# Altium schematic symbol library kmilo17pet-Maxim_Sensors.SchLib: 1172 symbols (part 58 of 61)
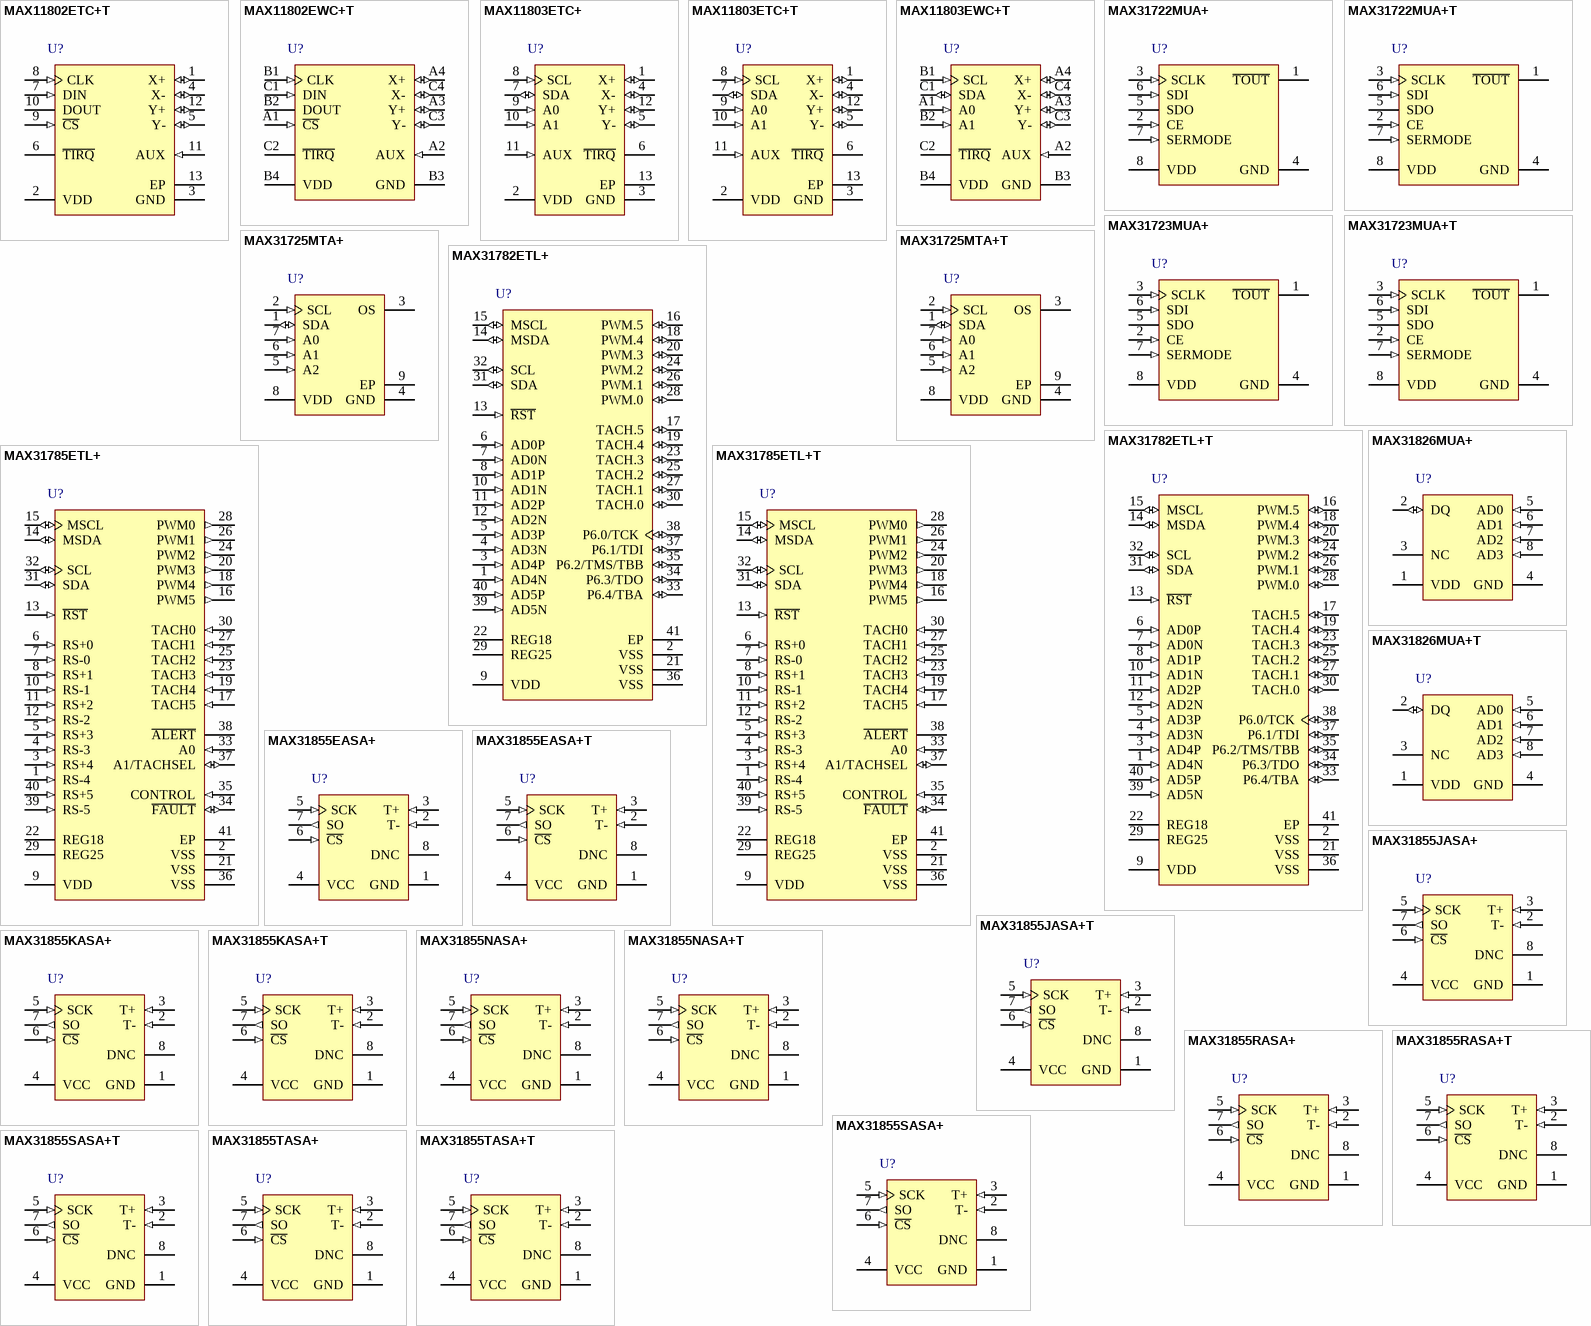
[diagram p90: symbols MAX11802ETC+T to MAX31855TASA+T]

## MAX11803EWC+T
designator U?
4 Channels, Low-Power, Ultra Small Resistive Touch-Screen Controller with SPI Interface, -40 to 85 degC, 12-Pin BGA (W121A2+1), Pb-Free, Tape and Reel; Generic Part Number: MAX11803; PartNumber: MAX11803EWC+T; Channels: 4; EV Kit: Yes; Interface: I2C; DatasheetVersion: Rev. 3; PackageVersion: Rev. G, 02/2010; PackageReference: W121A2+1; PackageDescription: 12-Pin Wafer-Level Package, Full Array, Body 1.555 x 2.135 mm, Pitch 0.5 mm; Supplier 1: Digi-Key; Supplier Part Number 1: MAX11803EWC+TTR-ND; Supplier 2: Digi-Key; Supplier Part Number 2: MAX11803EWC+TCT-ND; Supplier 3: Digi-Key; Supplier Part Number 3: MAX11803EWC+TDKR-ND; Supplier 4: Newark; Supplier Part Number 4: 69R7363; Supplier 5: Mouser; Supplier Part Number 5: 700-MAX11803EWC+T; Controller Type: Resistive; Packing: Tape and Reel; Mounting Technology: Surface Mount; ComponentLink1Description: Manufacturer URL; ComponentLink1URL: http://www.maximintegrated.com/; ComponentLink2Description: Datasheet; ComponentLink2URL: http://datasheets.maximintegrated.com/en/ds/MAX11800-MAX11803.pdf; ComponentLink3Description: Package Specification; ComponentLink3URL: http://pdfserv.maximintegrated.com/package_dwgs/21-0009.PDF
footprint MAXM-W121A2+1 (BGA, 12-Balls, Body 2.135x1.555mm, Pitch 0.5mm)
pins: A1 A0 (in) "I2C Address Input Bit 0", A2 AUX (in) "Auxiliary Input", A3 Y+ (io) "Y+ Channel Input/Output", A4 X+ (io) "X+ Channel Input/Output", B1 SCL (in) "I2C Serial Data Clock Input", B2 A1 (in) "I2C Address Input Bit 1", B3 GND (power) "Ground", B4 VDD (power) "Power Supply. Bypass VDD to GND with a 1uF capacitor.", C1 SDA (io) "I2C Serial Data Bus Input/Output", C2 ~{TIRQ} (hiz) "Active-Low Touch Interrupt Output", C3 Y- (io) "Y- Channel Input/Output", C4 X- (io) "X- Channel Input/Output"

## MAX31722MUA+
designator U?
Digital Thermometers and Thermostats with SPI / 3-Wire Interface, 12 Bits Temperature Resolution, -55 to 125 degC, 8-Pin SOP (U8+1), Pb-Free; Generic Part Number: MAX31722; PartNumber: MAX31722MUA+; Alarm Output: Overt; Functions: Memory, Single Temperature Alarm ,Standalone Thermostat; Interface: 3-Wire/SPI, 3-Wire; Parasite Pwr.: No; DatasheetVersion: Rev. 0; PackageVersion: Rev. L, 08/2009; PackageReference: U8+1; PackageDescription: 8-Pin Micro-MAX, Thin Shrink Small-Outline (U8+1), Body 3 x 3 mm, Pitch 0.65 mm; Supplier 1: Digi-Key; Supplier Part Number 1: MAX31722MUA+-ND; Supplier 2: Farnell; Supplier Part Number 2: 2212248; Supplier 3: Newark; Supplier Part Number 3: 45W6313; Supplier 4: Mouser; Supplier Part Number 4: 700-MAX31722MUA+; Mounting Technology: Surface Mount; Code_JEDEC: MO-187; ComponentLink1Description: Manufacturer URL; ComponentLink1URL: http://www.maximintegrated.com/; ComponentLink2Description: Datasheet; ComponentLink2URL: http://datasheets.maximintegrated.com/en/ds/MAX31722-MAX31723.pdf; ComponentLink3Description: Package Specification; ComponentLink3URL: http://pdfserv.maximintegrated.com/package_dwgs/21-0036.PDF
footprint MAXM-U8+1_N (SOP, 8-Leads, Body 3x3mm, Pitch 0.65mm, IPC Medium Density)
footprint MAXM-U8+1_L (SOP, 8-Leads, Body 3x3mm, Pitch 0.65mm, IPC High Density)
footprint MAXM-U8+1_M (SOP, 8-Leads, Body 3x3mm, Pitch 0.65mm, IPC Low Density)
pins: 1 ~{TOUT} (oc) "Thermostat Output. Open-drain output indicator for internal thermal alarm limits.", 2 CE (in) "Chip Enable. Must be asserted high for communication to take place for either the SPI or 3-wire interfaces.", 3 SCLK (in) "Serial-Clock Input. Used to synchronize data movement on the serial interface for either SPI or 3-wire interfaces.", 4 GND (power) "Ground. Ground connection.", 5 SDO (hiz) "Serial-Data Output. When SPI communication is selected, the SDO pin is the serial-data output for the SPI bus. When 3-wire communication is selected, this pin must be connected to the SDI pin. The SDI and SDO pins function (See Datasheet)", 6 SDI (in) "Serial-Data Input. When SPI communication is selected, the SDI pin is the serial-data input for the SPI bus. When 3-wire communication is selected, this pin must be connected to the SDO pin. The SDI and SDO pins function as (See Datasheet)", 7 SERMODE (in) "Serial-Interface Mode Input. This pin selects which interface is used. When connected to VDD, SPI communication is selected. When connected to GND, 3-wire communication is selected.", 8 VDD (power) "Supply Voltage. Power-supply input."

## MAX31722MUA+T
designator U?
Digital Thermometers and Thermostats with SPI / 3-Wire Interface, 12 Bits Temperature Resolution, -55 to 125 degC, 8-Pin SOP (U8+1), Pb-Free, Tape and Reel; Generic Part Number: MAX31722; PartNumber: MAX31722MUA+T; Alarm Output: Overt; Functions: Memory, Single Temperature Alarm ,Standalone Thermostat; Interface: 3-Wire/SPI, 3-Wire; Parasite Pwr.: No; DatasheetVersion: Rev. 0; PackageVersion: Rev. L, 08/2009; PackageReference: U8+1; PackageDescription: 8-Pin Micro-MAX, Thin Shrink Small-Outline (U8+1), Body 3 x 3 mm, Pitch 0.65 mm; Supplier 1: Digi-Key; Supplier Part Number 1: MAX31722MUA+TTR-ND; Supplier 2: Digi-Key; Supplier Part Number 2: MAX31722MUA+TCT-ND; Supplier 3: Digi-Key; Supplier Part Number 3: MAX31722MUA+TDKR-ND; Supplier 4: Mouser; Supplier Part Number 4: 700-MAX31722MUA+T; Packing: Tape and Reel; Mounting Technology: Surface Mount; Code_JEDEC: MO-187; ComponentLink1Description: Manufacturer URL; ComponentLink1URL: http://www.maximintegrated.com/; ComponentLink2Description: Datasheet; ComponentLink2URL: http://datasheets.maximintegrated.com/en/ds/MAX31722-MAX31723.pdf; ComponentLink3Description: Package Specification; ComponentLink3URL: http://pdfserv.maximintegrated.com/package_dwgs/21-0036.PDF
footprint MAXM-U8+1_N (SOP, 8-Leads, Body 3x3mm, Pitch 0.65mm, IPC Medium Density)
footprint MAXM-U8+1_L (SOP, 8-Leads, Body 3x3mm, Pitch 0.65mm, IPC High Density)
footprint MAXM-U8+1_M (SOP, 8-Leads, Body 3x3mm, Pitch 0.65mm, IPC Low Density)
pins: 1 ~{TOUT} (oc) "Thermostat Output. Open-drain output indicator for internal thermal alarm limits.", 2 CE (in) "Chip Enable. Must be asserted high for communication to take place for either the SPI or 3-wire interfaces.", 3 SCLK (in) "Serial-Clock Input. Used to synchronize data movement on the serial interface for either SPI or 3-wire interfaces.", 4 GND (power) "Ground. Ground connection.", 5 SDO (hiz) "Serial-Data Output. When SPI communication is selected, the SDO pin is the serial-data output for the SPI bus. When 3-wire communication is selected, this pin must be connected to the SDI pin. The SDI and SDO pins function (See Datasheet)", 6 SDI (in) "Serial-Data Input. When SPI communication is selected, the SDI pin is the serial-data input for the SPI bus. When 3-wire communication is selected, this pin must be connected to the SDO pin. The SDI and SDO pins function as (See Datasheet)", 7 SERMODE (in) "Serial-Interface Mode Input. This pin selects which interface is used. When connected to VDD, SPI communication is selected. When connected to GND, 3-wire communication is selected.", 8 VDD (power) "Supply Voltage. Power-supply input."

## MAX31723MUA+
designator U?
Digital Thermometers and Thermostats with SPI / 3-Wire Interface, 12 Bits Temperature Resolution, -55 to 125 degC, 8-Pin SOP (U8+1), Pb-Free; Generic Part Number: MAX31723; PartNumber: MAX31723MUA+; Alarm Output: Overt; Functions: Memory, Single Temperature Alarm ,Standalone Thermostat; Interface: 3-Wire/SPI, 3-Wire; Parasite Pwr.: No; DatasheetVersion: Rev. 0; PackageVersion: Rev. L, 08/2009; PackageReference: U8+1; PackageDescription: 8-Pin Micro-MAX, Thin Shrink Small-Outline (U8+1), Body 3 x 3 mm, Pitch 0.65 mm; Supplier 1: Digi-Key; Supplier Part Number 1: MAX31723MUA+-ND; Supplier 2: Farnell; Supplier Part Number 2: 2212251; Supplier 3: Newark; Supplier Part Number 3: 45W6314; Supplier 4: Mouser; Supplier Part Number 4: 700-MAX31723MUA+; Mounting Technology: Surface Mount; Code_JEDEC: MO-187; ComponentLink1Description: Manufacturer URL; ComponentLink1URL: http://www.maximintegrated.com/; ComponentLink2Description: Datasheet; ComponentLink2URL: http://datasheets.maximintegrated.com/en/ds/MAX31722-MAX31723.pdf; ComponentLink3Description: Package Specification; ComponentLink3URL: http://pdfserv.maximintegrated.com/package_dwgs/21-0036.PDF
footprint MAXM-U8+1_N (SOP, 8-Leads, Body 3x3mm, Pitch 0.65mm, IPC Medium Density)
footprint MAXM-U8+1_L (SOP, 8-Leads, Body 3x3mm, Pitch 0.65mm, IPC High Density)
footprint MAXM-U8+1_M (SOP, 8-Leads, Body 3x3mm, Pitch 0.65mm, IPC Low Density)
pins: 1 ~{TOUT} (oc) "Thermostat Output. Open-drain output indicator for internal thermal alarm limits.", 2 CE (in) "Chip Enable. Must be asserted high for communication to take place for either the SPI or 3-wire interfaces.", 3 SCLK (in) "Serial-Clock Input. Used to synchronize data movement on the serial interface for either SPI or 3-wire interfaces.", 4 GND (power) "Ground. Ground connection.", 5 SDO (hiz) "Serial-Data Output. When SPI communication is selected, the SDO pin is the serial-data output for the SPI bus. When 3-wire communication is selected, this pin must be connected to the SDI pin. The SDI and SDO pins function (See Datasheet)", 6 SDI (in) "Serial-Data Input. When SPI communication is selected, the SDI pin is the serial-data input for the SPI bus. When 3-wire communication is selected, this pin must be connected to the SDO pin. The SDI and SDO pins function as (See Datasheet)", 7 SERMODE (in) "Serial-Interface Mode Input. This pin selects which interface is used. When connected to VDD, SPI communication is selected. When connected to GND, 3-wire communication is selected.", 8 VDD (power) "Supply Voltage. Power-supply input."

## MAX31723MUA+T
designator U?
Digital Thermometers and Thermostats with SPI / 3-Wire Interface, 12 Bits Temperature Resolution, -55 to 125 degC, 8-Pin SOP (U8+1), Pb-Free, Tape ang Reel; Generic Part Number: MAX31723; PartNumber: MAX31723MUA+T; Alarm Output: Overt; Functions: Memory, Single Temperature Alarm ,Standalone Thermostat; Interface: 3-Wire/SPI, 3-Wire; Parasite Pwr.: No; DatasheetVersion: Rev. 0; PackageVersion: Rev. L, 08/2009; PackageReference: U8+1; PackageDescription: 8-Pin Micro-MAX, Thin Shrink Small-Outline (U8+1), Body 3 x 3 mm, Pitch 0.65 mm; Supplier 1: Digi-Key; Supplier Part Number 1: MAX31723MUA+TTR-ND; Supplier 2: Digi-Key; Supplier Part Number 2: MAX31723MUA+TCT-ND; Supplier 3: Digi-Key; Supplier Part Number 3: MAX31723MUA+TDKR-ND; Supplier 4: Mouser; Supplier Part Number 4: 700-MAX31723MUA+T; Packing: Tape ang Reel; Mounting Technology: Surface Mount; Code_JEDEC: MO-187; ComponentLink1Description: Manufacturer URL; ComponentLink1URL: http://www.maximintegrated.com/; ComponentLink2Description: Datasheet; ComponentLink2URL: http://datasheets.maximintegrated.com/en/ds/MAX31722-MAX31723.pdf; ComponentLink3Description: Package Specification; ComponentLink3URL: http://pdfserv.maximintegrated.com/package_dwgs/21-0036.PDF
footprint MAXM-U8+1_N (SOP, 8-Leads, Body 3x3mm, Pitch 0.65mm, IPC Medium Density)
footprint MAXM-U8+1_L (SOP, 8-Leads, Body 3x3mm, Pitch 0.65mm, IPC High Density)
footprint MAXM-U8+1_M (SOP, 8-Leads, Body 3x3mm, Pitch 0.65mm, IPC Low Density)
pins: 1 ~{TOUT} (oc) "Thermostat Output. Open-drain output indicator for internal thermal alarm limits.", 2 CE (in) "Chip Enable. Must be asserted high for communication to take place for either the SPI or 3-wire interfaces.", 3 SCLK (in) "Serial-Clock Input. Used to synchronize data movement on the serial interface for either SPI or 3-wire interfaces.", 4 GND (power) "Ground. Ground connection.", 5 SDO (hiz) "Serial-Data Output. When SPI communication is selected, the SDO pin is the serial-data output for the SPI bus. When 3-wire communication is selected, this pin must be connected to the SDI pin. The SDI and SDO pins function (See Datasheet)", 6 SDI (in) "Serial-Data Input. When SPI communication is selected, the SDI pin is the serial-data input for the SPI bus. When 3-wire communication is selected, this pin must be connected to the SDO pin. The SDI and SDO pins function as (See Datasheet)", 7 SERMODE (in) "Serial-Interface Mode Input. This pin selects which interface is used. When connected to VDD, SPI communication is selected. When connected to GND, 3-wire communication is selected.", 8 VDD (power) "Supply Voltage. Power-supply input."

## MAX31725MTA+
designator U?
+ / -0.5 degC Local I2C Temperature Sensor, 16 Bits Temperature Resolution, -55 to 150 degC, 8-Pin SON (T833+2), Pb-Free; Generic Part Number: MAX31725; PartNumber: MAX31725MTA+; Alarm Output: Overt; Interface: 2-Wire/I2C/SMBus; Multi Droppable: Yes; Parasite Pwr.: No; DatasheetVersion: Rev. 0; PackageVersion: Rev. J, 08/2009; PackageReference: T833+2; PackageDescription: 8-Pin Plastic Very Very Thin Dual Flatpack No Leads, Exposed Pad (T833+2); Supplier 1: Digi-Key; Supplier Part Number 1: MAX31725MTA+-ND; Supplier 2: Mouser; Supplier Part Number 2: 700-MAX31725MTA+; Mounting Technology: Surface Mount; Code_JEDEC: MO229; ComponentLink1Description: Manufacturer URL; ComponentLink1URL: http://www.maximintegrated.com/; ComponentLink2Description: Datasheet; ComponentLink2URL: http://datasheets.maximintegrated.com/en/ds/MAX31725.pdf; ComponentLink3Description: Package Specification; ComponentLink3URL: http://pdfserv.maximintegrated.com/package_dwgs/21-0137.PDF
footprint MAXM-T833+2_V (SON, 8-Leads, Body 3x3 mm, Pitch 0.65mm, Thermal Pad 2.3x1.5mm)
pins: 1 SDA (io) "Serial-Data Input/Output Line. Open drain. Connect SDA to a pullup resistor. High impedance for supply voltages from 0 to 3.7V.", 2 SCL (in) "Serial-Data Clock Input. Open drain. Connect SCL to a pullup resistor. High impedance for supply voltages from 0 to 3.7V.", 3 OS (oc) "Overtemperature Shutdown Output. Open drain. Connect OS to a pullup resistor.", 4 GND (power) "Ground", 5 A2 (in) "I2C Slave Address Input. Connect A2 to GND or VDD to set the desired I2C bus address. Do not leave unconnected (Table 1).", 6 A1 (in) "I2C Slave Address Input. Connect A1 to GND, VDD, SDA, or SCL to set the desired I2C bus address. Do not leave unconnected (Table 1). High impedance for supply voltages from 0 to 3.7V.", 7 A0 (in) "I2C Slave Address Input. Connect A0 to GND, VDD, SDA, or SCL to set the desired I2C bus address. Do not leave unconnected (Table 1). High impedance for supply voltages from 0 to 3.7V.", 8 VDD (power) "Positive Supply Voltage Input. Bypass to GND with a 0.1uF bypass capacitor.", 9 EP (power) "Exposed Pad (Bottom Side of Package). Connect EP to GND."

## MAX31725MTA+T
designator U?
+ / -0.5 degC Local I2C Temperature Sensor, 16 Bits Temperature Resolution, -55 to 125 degC, 8-Pin SON (T833+2), Pb-Free, Tape and Reel; Generic Part Number: MAX31725; PartNumber: MAX31725MTA+T; Alarm Output: Overt; Interface: 2-Wire/I2C/SMBus; Multi Droppable: Yes; Parasite Pwr.: No; DatasheetVersion: Rev. 0; PackageVersion: Rev. J, 08/2009; PackageReference: T833+2; PackageDescription: 8-Pin Plastic Very Very Thin Dual Flatpack No Leads, Exposed Pad (T833+2); Supplier 1: Digi-Key; Supplier Part Number 1: MAX31725MTA+T-ND; Supplier 2: Mouser; Supplier Part Number 2: 700-MAX31725MTA+T; Packing: Tape and Reel; Mounting Technology: Surface Mount; Code_JEDEC: MO229; ComponentLink1Description: Manufacturer URL; ComponentLink1URL: http://www.maximintegrated.com/; ComponentLink2Description: Datasheet; ComponentLink2URL: http://datasheets.maximintegrated.com/en/ds/MAX31725.pdf; ComponentLink3Description: Package Specification; ComponentLink3URL: http://pdfserv.maximintegrated.com/package_dwgs/21-0137.PDF
footprint MAXM-T833+2_V (SON, 8-Leads, Body 3x3 mm, Pitch 0.65mm, Thermal Pad 2.3x1.5mm)
pins: 1 SDA (io) "Serial-Data Input/Output Line. Open drain. Connect SDA to a pullup resistor. High impedance for supply voltages from 0 to 3.7V.", 2 SCL (in) "Serial-Data Clock Input. Open drain. Connect SCL to a pullup resistor. High impedance for supply voltages from 0 to 3.7V.", 3 OS (oc) "Overtemperature Shutdown Output. Open drain. Connect OS to a pullup resistor.", 4 GND (power) "Ground", 5 A2 (in) "I2C Slave Address Input. Connect A2 to GND or VDD to set the desired I2C bus address. Do not leave unconnected (Table 1).", 6 A1 (in) "I2C Slave Address Input. Connect A1 to GND, VDD, SDA, or SCL to set the desired I2C bus address. Do not leave unconnected (Table 1). High impedance for supply voltages from 0 to 3.7V.", 7 A0 (in) "I2C Slave Address Input. Connect A0 to GND, VDD, SDA, or SCL to set the desired I2C bus address. Do not leave unconnected (Table 1). High impedance for supply voltages from 0 to 3.7V.", 8 VDD (power) "Positive Supply Voltage Input. Bypass to GND with a 0.1uF bypass capacitor.", 9 EP (power) "Exposed Pad (Bottom Side of Package). Connect EP to GND."

## MAX31782ETL+
designator U?
System Management Microcontroller, -40 to 85 degC, 40-Pin QFN (T4066+2), Pb-Free; Generic Part Number: MAX31782; PartNumber: MAX31782ETL+; Fan Cntrl.: PWM; Fan Controller Functions: Fan Failure Detector, Remote & Local Sensor; Interface: 2-Wire/I2C/SMBus, JTAG; DatasheetVersion: Rev. 2; PackageVersion: Rev. M, 03/2012; PackageReference: T4066+2; PackageDescription: 40-Pin Thin Quad Flatpack, No Leads, Body 6 x 6 mm, Pitch 0.5 mm; Supplier 1: Digi-Key; Supplier Part Number 1: MAX31782ETL+-ND; Supplier 2: Mouser; Supplier Part Number 2: 700-MAX31782ETL+; Mounting Technology: Surface Mount; Code_JEDEC: MO-220; ComponentLink1Description: Manufacturer URL; ComponentLink1URL: http://www.maximintegrated.com/; ComponentLink2Description: Datasheet; ComponentLink2URL: http://datasheets.maximintegrated.com/en/ds/MAX31782.pdf; ComponentLink3Description: Package Specification; ComponentLink3URL: http://pdfserv.maximintegrated.com/package_dwgs/21-0141.PDF
footprint MAXM-T4066+2_N (QFN, 40-Leads, Body 6x6mm, Pitch 0.5mm, Thermal Pad 4.1x4.1mm, IPC Medium Density)
footprint MAXM-T4066+2_L (QFN, 40-Leads, Body 6x6mm, Pitch 0.5mm, Thermal Pad 4.1x4.1mm, IPC High Density)
footprint MAXM-T4066+2_M (QFN, 40-Leads, Body 6x6mm, Pitch 0.5mm, Thermal Pad 4.1x4.1mm, IPC Low Density)
pins: 1 AD4N (in) "Ground Reference for ADC.4 Voltage Measurement", 2 VSS (power) "Supply Return Node", 3 AD4P (in) "ADC Voltage-Sense Input, Measurement Relative to AD4N", 4 AD3N (in) "Ground Reference for ADC.3 Voltage Measurement. Connected to external reference pin when enabled.", 5 AD3P (in) "ADC Voltage-Sense Input, Measurement Relative to AD3N", 6 AD0P (in) "ADC Voltage-Sense Input, Measurement Relative to AD0N", 7 AD0N (in) "Ground Reference for ADC.0 Voltage Measurement", 8 AD1P (in) "ADC Voltage-Sense Input, Measurement Relative to AD1N", 9 VDD (power) "Input Supply. +2.7V to +5.5V input range. Bypass VDD to VSS with a 0.1uF capacitor.", 10 AD1N (in) "Ground Reference for ADC.1 Voltage Measurement", 11 AD2P (in) "ADC Voltage-Sense Input, Measurement Relative to AD2N", 12 AD2N (in) "Ground Reference for ADC.2 Voltage Measurement", 13 ~{RST} (in) "Active-Low Reset. A low-level voltage at this pin resets the IC.", 14 MSDA (io) "Master I2C-Compatible Bidirectional Data Line. When disabled, this pin can be used as GPIO P2.7.", 15 MSCL (io) "Master I2C-Compatible Clock. When disabled, this pin can be used as GPIO P2.6.", 16 PWM.5 (io) "PWM Output No. 5. When disabled, this pin can be used as GPIO.", 17 TACH.5 (io) "Tachometer Input No. 5. When disabled, this pin can be used as GPIO.", 18 PWM.4 (io) "PWM Output No. 4. When disabled, this pin can be used as GPIO.", 19 TACH.4 (io) "Tachometer Input No. 4. When disabled, this pin can be used as GPIO.", 20 PWM.3 (io) "PWM Output No. 3. When disabled, this pin can be used as GPIO.", 21 VSS (power) "Supply Return Node", 22 REG18 "Bypass REG18 to VSS with 1uF and high-frequency 10nF capacitors. Do not use for external circuitry.", 23 TACH.3 (io) "Tachometer Input No. 3. When disabled, this pin can be used as GPIO.", 24 PWM.2 (io) "PWM Output No. 2. When disabled, this pin can be used as GPIO.", 25 TACH.2 (io) "Tachometer Input No. 2. When disabled, this pin can be used as GPIO.", 26 PWM.1 (io) "PWM Output No. 1. When disabled, this pin can be used as GPIO.", 27 TACH.1 (io) "Tachometer Input No. 1. When disabled, this pin can be used as GPIO.", 28 PWM.0 (io) "PWM Output No. 0. When disabled, this pin can be used as GPIO.", 29 REG25 "Bypass REG25 to VSS with 1FF and high-frequency 10nF capacitors. Do not use for external circuitry.", 30 TACH.0 (io) "Tachometer Input No. 0. When disabled, this pin can be used as GPIO.", 31 SDA (io) "Slave I2C-Compatible Bidirectional Data Line. When disabled, this pin can be used as GPIO.", 32 SCL (io) "Slave I2C-Compatible Clock. When disabled, this pin can be used as GPIO.", 33 P6.4/TBA (io) "Programmable I/O Pin. Alternate function: Timer/Counter TBA", 34 P6.3/TDO (io) "Programmable I/O Pin. Alternate function: JTAG TDO", 35 P6.2/TMS/TBB (io) "Programmable I/O Pin. Alternate functions: Timer/Counter TBB, JTAG TMS", 36 VSS (power) "Supply Return Node", 37 P6.1/TDI (io) "Programmable I/O Pin. Alternate function: JTAG TDI", 38 P6.0/TCK (io) "Programmable I/O Pin. Alternate function: JTAG TCK", 39 AD5N (in) "Ground Reference for ADC.5 Voltage Measurement", 40 AD5P (in) "ADC Voltage-Sense Input, Measurement Relative to AD5N", 41 EP (power) "Exposed Pad. Not electrically connected to IC. Connect to VSS."

## MAX31782ETL+T
designator U?
System Management Microcontroller, -40 to 85 degC, 40-Pin QFN (T4066+2), Pb-Free, Tape and Reel; Generic Part Number: MAX31782; PartNumber: MAX31782ETL+T; Fan Cntrl.: PWM; Fan Controller Functions: Fan Failure Detector, Remote & Local Sensor; Interface: 2-Wire/I2C/SMBus, JTAG; DatasheetVersion: Rev. 2; PackageVersion: Rev. M, 03/2012; PackageReference: T4066+2; PackageDescription: 40-Pin Thin Quad Flatpack, No Leads, Body 6 x 6 mm, Pitch 0.5 mm; Supplier 1: Digi-Key; Supplier Part Number 1: MAX31782ETL+T-ND; Supplier 2: Mouser; Supplier Part Number 2: 700-MAX31782ETL+T; Packing: Tape and Reel; Mounting Technology: Surface Mount; Code_JEDEC: MO-220; ComponentLink1Description: Manufacturer URL; ComponentLink1URL: http://www.maximintegrated.com/; ComponentLink2Description: Datasheet; ComponentLink2URL: http://datasheets.maximintegrated.com/en/ds/MAX31782.pdf; ComponentLink3Description: Package Specification; ComponentLink3URL: http://pdfserv.maximintegrated.com/package_dwgs/21-0141.PDF
footprint MAXM-T4066+2_N (QFN, 40-Leads, Body 6x6mm, Pitch 0.5mm, Thermal Pad 4.1x4.1mm, IPC Medium Density)
footprint MAXM-T4066+2_L (QFN, 40-Leads, Body 6x6mm, Pitch 0.5mm, Thermal Pad 4.1x4.1mm, IPC High Density)
footprint MAXM-T4066+2_M (QFN, 40-Leads, Body 6x6mm, Pitch 0.5mm, Thermal Pad 4.1x4.1mm, IPC Low Density)
pins: 1 AD4N (in) "Ground Reference for ADC.4 Voltage Measurement", 2 VSS (power) "Supply Return Node", 3 AD4P (in) "ADC Voltage-Sense Input, Measurement Relative to AD4N", 4 AD3N (in) "Ground Reference for ADC.3 Voltage Measurement. Connected to external reference pin when enabled.", 5 AD3P (in) "ADC Voltage-Sense Input, Measurement Relative to AD3N", 6 AD0P (in) "ADC Voltage-Sense Input, Measurement Relative to AD0N", 7 AD0N (in) "Ground Reference for ADC.0 Voltage Measurement", 8 AD1P (in) "ADC Voltage-Sense Input, Measurement Relative to AD1N", 9 VDD (power) "Input Supply. +2.7V to +5.5V input range. Bypass VDD to VSS with a 0.1uF capacitor.", 10 AD1N (in) "Ground Reference for ADC.1 Voltage Measurement", 11 AD2P (in) "ADC Voltage-Sense Input, Measurement Relative to AD2N", 12 AD2N (in) "Ground Reference for ADC.2 Voltage Measurement", 13 ~{RST} (in) "Active-Low Reset. A low-level voltage at this pin resets the IC.", 14 MSDA (io) "Master I2C-Compatible Bidirectional Data Line. When disabled, this pin can be used as GPIO P2.7.", 15 MSCL (io) "Master I2C-Compatible Clock. When disabled, this pin can be used as GPIO P2.6.", 16 PWM.5 (io) "PWM Output No. 5. When disabled, this pin can be used as GPIO.", 17 TACH.5 (io) "Tachometer Input No. 5. When disabled, this pin can be used as GPIO.", 18 PWM.4 (io) "PWM Output No. 4. When disabled, this pin can be used as GPIO.", 19 TACH.4 (io) "Tachometer Input No. 4. When disabled, this pin can be used as GPIO.", 20 PWM.3 (io) "PWM Output No. 3. When disabled, this pin can be used as GPIO.", 21 VSS (power) "Supply Return Node", 22 REG18 "Bypass REG18 to VSS with 1uF and high-frequency 10nF capacitors. Do not use for external circuitry.", 23 TACH.3 (io) "Tachometer Input No. 3. When disabled, this pin can be used as GPIO.", 24 PWM.2 (io) "PWM Output No. 2. When disabled, this pin can be used as GPIO.", 25 TACH.2 (io) "Tachometer Input No. 2. When disabled, this pin can be used as GPIO.", 26 PWM.1 (io) "PWM Output No. 1. When disabled, this pin can be used as GPIO.", 27 TACH.1 (io) "Tachometer Input No. 1. When disabled, this pin can be used as GPIO.", 28 PWM.0 (io) "PWM Output No. 0. When disabled, this pin can be used as GPIO.", 29 REG25 "Bypass REG25 to VSS with 1FF and high-frequency 10nF capacitors. Do not use for external circuitry.", 30 TACH.0 (io) "Tachometer Input No. 0. When disabled, this pin can be used as GPIO.", 31 SDA (io) "Slave I2C-Compatible Bidirectional Data Line. When disabled, this pin can be used as GPIO.", 32 SCL (io) "Slave I2C-Compatible Clock. When disabled, this pin can be used as GPIO.", 33 P6.4/TBA (io) "Programmable I/O Pin. Alternate function: Timer/Counter TBA", 34 P6.3/TDO (io) "Programmable I/O Pin. Alternate function: JTAG TDO", 35 P6.2/TMS/TBB (io) "Programmable I/O Pin. Alternate functions: Timer/Counter TBB, JTAG TMS", 36 VSS (power) "Supply Return Node", 37 P6.1/TDI (io) "Programmable I/O Pin. Alternate function: JTAG TDI", 38 P6.0/TCK (io) "Programmable I/O Pin. Alternate function: JTAG TCK", 39 AD5N (in) "Ground Reference for ADC.5 Voltage Measurement", 40 AD5P (in) "ADC Voltage-Sense Input, Measurement Relative to AD5N", 41 EP (power) "Exposed Pad. Not electrically connected to IC. Connect to VSS."

## MAX31785ETL+
designator U?
6-Channel Intelligent Fan Controller, -40 to 85 degC, 40-Pin QFN (T4066+2), Pb-Free; Generic Part Number: MAX31785; PartNumber: MAX31785ETL+; Fan Cntrl.: PWM; Fan Controller Functions: Dual Temperature Alarms, Fan Failure Detector ,Remote & Local Sensor ,Temperature Switch/Temperature Comparator; Interface: 2-Wire/I2C/SMBus; DatasheetVersion: Rev. 3; PackageVersion: Rev. M, 03/2012; PackageReference: T4066+2; PackageDescription: 40-Pin Thin Quad Flatpack, No Leads, Body 6 x 6 mm, Pitch 0.5 mm; Supplier 1: Digi-Key; Supplier Part Number 1: MAX31785ETL+-ND; Supplier 2: Mouser; Supplier Part Number 2: 700-MAX31785ETL+; Mounting Technology: Surface Mount; Code_JEDEC: MO-220; ComponentLink1Description: Manufacturer URL; ComponentLink1URL: http://www.maximintegrated.com/; ComponentLink2Description: Datasheet; ComponentLink2URL: http://datasheets.maximintegrated.com/en/ds/MAX31785.pdf; ComponentLink3Description: Package Specification; ComponentLink3URL: http://pdfserv.maximintegrated.com/package_dwgs/21-0141.PDF
footprint MAXM-T4066+2_N (QFN, 40-Leads, Body 6x6mm, Pitch 0.5mm, Thermal Pad 4.1x4.1mm, IPC Medium Density)
footprint MAXM-T4066+2_L (QFN, 40-Leads, Body 6x6mm, Pitch 0.5mm, Thermal Pad 4.1x4.1mm, IPC High Density)
footprint MAXM-T4066+2_M (QFN, 40-Leads, Body 6x6mm, Pitch 0.5mm, Thermal Pad 4.1x4.1mm, IPC Low Density)
pins: 1 RS-4 (in) "Ground Reference for Thermal Diode or Remote Voltage ADC4 Measurement", 2 VSS (power) "Digital-Supply Return Node (Ground)", 3 RS+4 (in) "Thermal Diode or Remote Voltage ADC Input, Measurement Relative to RS-4", 4 RS-3 (in) "Ground Reference for Thermal Diode or Remote Voltage ADC3 Measurement", 5 RS+3 (in) "Thermal Diode or Remote Voltage ADC Input, Measurement Relative to RS-3", 6 RS+0 (in) "Thermal Diode or Remote Voltage ADC Input, Measurement Relative to RS-0", 7 RS-0 (in) "Ground Reference for Thermal Diode or Remote Voltage ADC0 Measurement", 8 RS+1 (in) "Thermal Diode or Remote Voltage ADC Input, Measurement Relative to RS-1", 9 VDD (power) "Supply Voltage. Bypass VDD to VSS with a 0.1uF capacitor.", 10 RS-1 (in) "Ground Reference for Thermal Diode or Remote Voltage ADC1 Measurement", 11 RS+2 (in) "Thermal Diode or Remote Voltage ADC Input, Measurement Relative to RS-2", 12 RS-2 (in) "Ground Reference for Thermal Diode or Remote Voltage ADC2 Measurement", 13 ~{RST} (in) "Reset Active-Low Input", 14 MSDA (io) "Master I2C Data Input/Output. Open-drain output.", 15 MSCL (io) "Master I2C Clock Input/Output. Open-drain output.", 16 PWM5 (out) "Fan PWM Output #5. CMOS push-pull output. Low when the fan is disabled. A 100% duty cycle implies this pin is continuously high.", 17 TACH5 (in) "Fan Tachometer Input", 18 PWM4 (out) "Fan PWM Output #4. CMOS push-pull output. Low when the fan is disabled. A 100% duty cycle implies this pin is continuously high.", 19 TACH4 (in) "Fan Tachometer Input", 20 PWM3 (out) "Fan PWM Output #3. CMOS push-pull output. Low when the fan is disabled. A 100% duty cycle implies this pin is continuously high.", 21 VSS (power) "Digital-Supply Return Node (Ground)", 22 REG18 "Regulator for Low-Voltage Digital Circuitry. Bypass REG18 to VSS with 1uF and 10nF capacitors. Do not connect other circuitry to this pin.", 23 TACH3 (in) "Fan Tachometer Input", 24 PWM2 (out) "Fan PWM Output #2. CMOS push-pull output. Low when the fan is disabled. A 100% duty cycle implies this pin is continuously high.", 25 TACH2 (in) "Fan Tachometer Input", 26 PWM1 (out) "Fan PWM Output #1. CMOS push-pull output. Low when the fan is disabled. A 100% duty cycle implies this pin is continuously high.", 27 TACH1 (in) "Fan Tachometer Input", 28 PWM0 (out) "Fan PWM Output #0. CMOS push-pull output. Low when the fan is disabled. A 100% duty cycle implies this pin is continuously high.", 29 REG25 "Regulator for Analog Circuitry. Bypass REG25 to VSS with 1uF and 10uF capacitors. Do not connect other circuitry to this pin.", 30 TACH0 (in) "Fan Tachometer Input", 31 SDA (io) "I2C/SMBus-Compatible Input/Output", 32 SCL (io) "I2C/SMBus-Compatible Clock Input", 33 A0 (in) "SMBus Address 0 Input. This pin is sampled on device power-up to determine the SMBus address; connect a 100k ohm resistor from this pin to either VSS or VDD to set the address.", 34 ~{FAULT} (io) "Active-Low, Open-Drain Fault Input/Output. If enabled with the MFR_FAULT_RESPONSE command, this pin is asserted during a fault condition (fan speed, overtemperature, overvoltage, or undervoltage). Also, if enabled with the (See Datasheet)", 35 CONTROL (in) "Global Fan-Off Control. When this pin is connected low, all fans are forced off (other functionality remains active). When this pin is connected high (or left open circuit), fans operate normally. This pin has a 50us (See Datasheet)", 36 VSS (power) "Digital-Supply Return Node (Ground)", 37 A1/TACHSEL (io) "SMBus Address 1 Input/Dual Tach-Select Output. This dual-function pin is sampled on device power-up to determine the SMBus address; connect a 100k ohm resistor from this pin to either VSS or VDD to set the address. After (See Datasheet)", 38 ~{ALERT} (oc) "Active-Low, Open-Drain Alert Output", 39 RS-5 (in) "Ground Reference for Thermal Diode or Remote Voltage ADC5 Measurement", 40 RS+5 (in) "Thermal Diode or Remote Voltage ADC Input, Measurement Relative to RS-5", 41 EP (power) "Exposed Pad (Bottom Side of Package). Connect EP to VSS."

## MAX31785ETL+T
designator U?
6-Channel Intelligent Fan Controller, -40 to 85 degC, 40-Pin QFN (T4066+2), Pb-Free, Tape and Reel; Generic Part Number: MAX31785; PartNumber: MAX31785ETL+T; Fan Cntrl.: PWM; Fan Controller Functions: Dual Temperature Alarms, Fan Failure Detector ,Remote & Local Sensor ,Temperature Switch/Temperature Comparator; Interface: 2-Wire/I2C/SMBus; DatasheetVersion: Rev. 3; PackageVersion: Rev. M, 03/2012; PackageReference: T4066+2; PackageDescription: 40-Pin Thin Quad Flatpack, No Leads, Body 6 x 6 mm, Pitch 0.5 mm; Supplier 1: Digi-Key; Supplier Part Number 1: MAX31785ETL+TTR-ND; Supplier 2: Digi-Key; Supplier Part Number 2: MAX31785ETL+TCT-ND; Supplier 3: Digi-Key; Supplier Part Number 3: MAX31785ETL+TDKR-ND; Supplier 4: Mouser; Supplier Part Number 4: 700-MAX31785ETL+T; Packing: Tape and Reel; Mounting Technology: Surface Mount; Code_JEDEC: MO-220; ComponentLink1Description: Manufacturer URL; ComponentLink1URL: http://www.maximintegrated.com/; ComponentLink2Description: Datasheet; ComponentLink2URL: http://datasheets.maximintegrated.com/en/ds/MAX31785.pdf; ComponentLink3Description: Package Specification; ComponentLink3URL: http://pdfserv.maximintegrated.com/package_dwgs/21-0141.PDF
footprint MAXM-T4066+2_N (QFN, 40-Leads, Body 6x6mm, Pitch 0.5mm, Thermal Pad 4.1x4.1mm, IPC Medium Density)
footprint MAXM-T4066+2_L (QFN, 40-Leads, Body 6x6mm, Pitch 0.5mm, Thermal Pad 4.1x4.1mm, IPC High Density)
footprint MAXM-T4066+2_M (QFN, 40-Leads, Body 6x6mm, Pitch 0.5mm, Thermal Pad 4.1x4.1mm, IPC Low Density)
pins: 1 RS-4 (in) "Ground Reference for Thermal Diode or Remote Voltage ADC4 Measurement", 2 VSS (power) "Digital-Supply Return Node (Ground)", 3 RS+4 (in) "Thermal Diode or Remote Voltage ADC Input, Measurement Relative to RS-4", 4 RS-3 (in) "Ground Reference for Thermal Diode or Remote Voltage ADC3 Measurement", 5 RS+3 (in) "Thermal Diode or Remote Voltage ADC Input, Measurement Relative to RS-3", 6 RS+0 (in) "Thermal Diode or Remote Voltage ADC Input, Measurement Relative to RS-0", 7 RS-0 (in) "Ground Reference for Thermal Diode or Remote Voltage ADC0 Measurement", 8 RS+1 (in) "Thermal Diode or Remote Voltage ADC Input, Measurement Relative to RS-1", 9 VDD (power) "Supply Voltage. Bypass VDD to VSS with a 0.1uF capacitor.", 10 RS-1 (in) "Ground Reference for Thermal Diode or Remote Voltage ADC1 Measurement", 11 RS+2 (in) "Thermal Diode or Remote Voltage ADC Input, Measurement Relative to RS-2", 12 RS-2 (in) "Ground Reference for Thermal Diode or Remote Voltage ADC2 Measurement", 13 ~{RST} (in) "Reset Active-Low Input", 14 MSDA (io) "Master I2C Data Input/Output. Open-drain output.", 15 MSCL (io) "Master I2C Clock Input/Output. Open-drain output.", 16 PWM5 (out) "Fan PWM Output #5. CMOS push-pull output. Low when the fan is disabled. A 100% duty cycle implies this pin is continuously high.", 17 TACH5 (in) "Fan Tachometer Input", 18 PWM4 (out) "Fan PWM Output #4. CMOS push-pull output. Low when the fan is disabled. A 100% duty cycle implies this pin is continuously high.", 19 TACH4 (in) "Fan Tachometer Input", 20 PWM3 (out) "Fan PWM Output #3. CMOS push-pull output. Low when the fan is disabled. A 100% duty cycle implies this pin is continuously high.", 21 VSS (power) "Digital-Supply Return Node (Ground)", 22 REG18 "Regulator for Low-Voltage Digital Circuitry. Bypass REG18 to VSS with 1uF and 10nF capacitors. Do not connect other circuitry to this pin.", 23 TACH3 (in) "Fan Tachometer Input", 24 PWM2 (out) "Fan PWM Output #2. CMOS push-pull output. Low when the fan is disabled. A 100% duty cycle implies this pin is continuously high.", 25 TACH2 (in) "Fan Tachometer Input", 26 PWM1 (out) "Fan PWM Output #1. CMOS push-pull output. Low when the fan is disabled. A 100% duty cycle implies this pin is continuously high.", 27 TACH1 (in) "Fan Tachometer Input", 28 PWM0 (out) "Fan PWM Output #0. CMOS push-pull output. Low when the fan is disabled. A 100% duty cycle implies this pin is continuously high.", 29 REG25 "Regulator for Analog Circuitry. Bypass REG25 to VSS with 1uF and 10uF capacitors. Do not connect other circuitry to this pin.", 30 TACH0 (in) "Fan Tachometer Input", 31 SDA (io) "I2C/SMBus-Compatible Input/Output", 32 SCL (io) "I2C/SMBus-Compatible Clock Input", 33 A0 (in) "SMBus Address 0 Input. This pin is sampled on device power-up to determine the SMBus address; connect a 100k ohm resistor from this pin to either VSS or VDD to set the address.", 34 ~{FAULT} (io) "Active-Low, Open-Drain Fault Input/Output. If enabled with the MFR_FAULT_RESPONSE command, this pin is asserted during a fault condition (fan speed, overtemperature, overvoltage, or undervoltage). Also, if enabled with the (See Datasheet)", 35 CONTROL (in) "Global Fan-Off Control. When this pin is connected low, all fans are forced off (other functionality remains active). When this pin is connected high (or left open circuit), fans operate normally. This pin has a 50us (See Datasheet)", 36 VSS (power) "Digital-Supply Return Node (Ground)", 37 A1/TACHSEL (io) "SMBus Address 1 Input/Dual Tach-Select Output. This dual-function pin is sampled on device power-up to determine the SMBus address; connect a 100k ohm resistor from this pin to either VSS or VDD to set the address. After (See Datasheet)", 38 ~{ALERT} (oc) "Active-Low, Open-Drain Alert Output", 39 RS-5 (in) "Ground Reference for Thermal Diode or Remote Voltage ADC5 Measurement", 40 RS+5 (in) "Thermal Diode or Remote Voltage ADC Input, Measurement Relative to RS-5", 41 EP (power) "Exposed Pad (Bottom Side of Package). Connect EP to VSS."

## MAX31826MUA+
designator U?
1-Wire Digital Temperature Sensor with 1 Kbit Lockable EEPROM, -55 to 125 degC, 8-Pin SOP (U8+1), Pb-Free; Generic Part Number: MAX31826; PartNumber: MAX31826MUA+; Functions: Memory; Multi Droppable: Yes; Sensor Type: Local; DatasheetVersion: Rev. 0; PackageVersion: Rev. L, 08/2009; PackageReference: U8+1; PackageDescription: 8-Pin Micro-MAX, Thin Shrink Small-Outline (U8+1), Body 3 x 3 mm, Pitch 0.65 mm; Supplier 1: Digi-Key; Supplier Part Number 1: MAX31826MUA+-ND; Supplier 2: Mouser; Supplier Part Number 2: 700-MAX31826MUA+; Interface: 1-Wire; Parasite Pwr.: Yes; RoHS: Pb-Free; Mounting Technology: Surface Mount; Code_JEDEC: MO-187; ComponentLink1Description: Manufacturer URL; ComponentLink1URL: http://www.maximintegrated.com/; ComponentLink2Description: Datasheet; ComponentLink2URL: http://datasheets.maximintegrated.com/en/ds/MAX31826.pdf; ComponentLink3Description: Package Specification; ComponentLink3URL: http://pdfserv.maximintegrated.com/package_dwgs/21-0036.PDF
footprint MAXM-U8+1_N (SOP, 8-Leads, Body 3x3mm, Pitch 0.65mm, IPC Medium Density)
footprint MAXM-U8+1_L (SOP, 8-Leads, Body 3x3mm, Pitch 0.65mm, IPC High Density)
footprint MAXM-U8+1_M (SOP, 8-Leads, Body 3x3mm, Pitch 0.65mm, IPC Low Density)
pins: 1 VDD (power) "Optional VDD. VDD must be grounded for operation in parasite-power mode.", 2 DQ (io) "Data Input/Output. Open-drain 1-Wire interface pin. Also provides power to the device when used in parasite-power mode (see the Parasite Power section.)", 3 NC "No Connection. Not internally connected.", 4 GND (power) "Ground", 5 AD0 (in) "Location Address Input (Least Significant Bit)", 6 AD1 (in) "Location Address Input", 7 AD2 (in) "Location Address Input", 8 AD3 (in) "Location Address Input (Most Significant Bit)"

## MAX31826MUA+T
designator U?
1-Wire Digital Temperature Sensor with 1 Kbit Lockable EEPROM, -55 to 125 degC, 8-Pin SOP (U8+1), Pb-Free, Tape and Reel; Generic Part Number: MAX31826; PartNumber: MAX31826MUA+T; Functions: Memory; Multi Droppable: Yes; Sensor Type: Local; DatasheetVersion: Rev. 0; PackageVersion: Rev. L, 08/2009; PackageReference: U8+1; PackageDescription: 8-Pin Micro-MAX, Thin Shrink Small-Outline (U8+1), Body 3 x 3 mm, Pitch 0.65 mm; Supplier 1: Digi-Key; Supplier Part Number 1: MAX31826MUA+T-ND; Supplier 2: Mouser; Supplier Part Number 2: 700-MAX31826MUA+T; Interface: 1-Wire; Packing: Tape and Reel; Parasite Pwr.: Yes; RoHS: Pb-Free; Mounting Technology: Surface Mount; Code_JEDEC: MO-187; ComponentLink1Description: Manufacturer URL; ComponentLink1URL: http://www.maximintegrated.com/; ComponentLink2Description: Datasheet; ComponentLink2URL: http://datasheets.maximintegrated.com/en/ds/MAX31826.pdf; ComponentLink3Description: Package Specification; ComponentLink3URL: http://pdfserv.maximintegrated.com/package_dwgs/21-0036.PDF
footprint MAXM-U8+1_N (SOP, 8-Leads, Body 3x3mm, Pitch 0.65mm, IPC Medium Density)
footprint MAXM-U8+1_L (SOP, 8-Leads, Body 3x3mm, Pitch 0.65mm, IPC High Density)
footprint MAXM-U8+1_M (SOP, 8-Leads, Body 3x3mm, Pitch 0.65mm, IPC Low Density)
pins: 1 VDD (power) "Optional VDD. VDD must be grounded for operation in parasite-power mode.", 2 DQ (io) "Data Input/Output. Open-drain 1-Wire interface pin. Also provides power to the device when used in parasite-power mode (see the Parasite Power section.)", 3 NC "No Connection. Not internally connected.", 4 GND (power) "Ground", 5 AD0 (in) "Location Address Input (Least Significant Bit)", 6 AD1 (in) "Location Address Input", 7 AD2 (in) "Location Address Input", 8 AD3 (in) "Location Address Input (Most Significant Bit)"

## MAX31855EASA+
designator U?
Cold Junction Compensated Thermocouple to Digital Converter, 14 Bits Temperature Resolution, -40 to 125 degC, 8-Pin SOIC (S8+4), Pb-Free; Generic Part Number: MAX31855; PartNumber: MAX31855EASA+; Functions: Thermocouple-to-Digital Converter; Interface: SPI; Parasite Pwr.: No; DatasheetVersion: Rev. 2; PackageVersion: Rev. D, 10/2012; PackageReference: S8+4; PackageDescription: 8-Pin Small-Outline IC, Narrow, Body 3.9 x 4.9 mm, Pitch 1.27 mm; Supplier 1: Digi-Key; Supplier Part Number 1: MAX31855EASA+-ND; Supplier 2: Mouser; Supplier Part Number 2: 700-MAX31855EASA+; Mounting Technology: Surface Mount; Code_JEDEC: MS-012; ComponentLink1Description: Manufacturer URL; ComponentLink1URL: http://www.maximintegrated.com/; ComponentLink2Description: Datasheet; ComponentLink2URL: http://datasheets.maximintegrated.com/en/ds/MAX31855.pdf; ComponentLink3Description: Package Specification; ComponentLink3URL: http://pdfserv.maximintegrated.com/package_dwgs/21-0041.PDF
footprint MAXM-S8+4_N (SOIC, 8-Leads, Body 4.9x3.9mm, Pitch 1.27mm, IPC Medium Density)
footprint MAXM-S8+4_L (SOIC, 8-Leads, Body 4.9x3.9mm, Pitch 1.27mm, IPC High Density)
footprint MAXM-S8+4_M (SOIC, 8-Leads, Body 4.9x3.9mm, Pitch 1.27mm, IPC Low Density)
pins: 1 GND (power) "Ground", 2 T- (in) "Thermocouple Input. See Table 1. Do not connect to GND.", 3 T+ (in) "Thermocouple Input. See Table 1.", 4 VCC (power) "Power-Supply Voltage", 5 SCK (in) "Serial-Clock Input", 6 ~{CS} (in) "Active-Low Chip Select. Set C\S\ low to enable the serial interface.", 7 SO (out) "Serial-Data Output", 8 DNC "Do Not Connect"

## MAX31855EASA+T
designator U?
Cold Junction Compensated Thermocouple to Digital Converter, 14 Bits Temperature Resolution, -40 to 125 degC, 8-Pin SOIC (S8+4), Pb-Free, Tape ang Reel; Generic Part Number: MAX31855; PartNumber: MAX31855EASA+T; Functions: Thermocouple-to-Digital Converter; Interface: SPI; Parasite Pwr.: No; DatasheetVersion: Rev. 2; PackageVersion: Rev. D, 10/2012; PackageReference: S8+4; PackageDescription: 8-Pin Small-Outline IC, Narrow, Body 3.9 x 4.9 mm, Pitch 1.27 mm; Supplier 1: Digi-Key; Supplier Part Number 1: MAX31855EASA+T-ND; Supplier 2: Mouser; Supplier Part Number 2: 700-MAX31855EASA+T; Packing: Tape ang Reel; Mounting Technology: Surface Mount; Code_JEDEC: MS-012; ComponentLink1Description: Manufacturer URL; ComponentLink1URL: http://www.maximintegrated.com/; ComponentLink2Description: Datasheet; ComponentLink2URL: http://datasheets.maximintegrated.com/en/ds/MAX31855.pdf; ComponentLink3Description: Package Specification; ComponentLink3URL: http://pdfserv.maximintegrated.com/package_dwgs/21-0041.PDF
footprint MAXM-S8+4_N (SOIC, 8-Leads, Body 4.9x3.9mm, Pitch 1.27mm, IPC Medium Density)
footprint MAXM-S8+4_L (SOIC, 8-Leads, Body 4.9x3.9mm, Pitch 1.27mm, IPC High Density)
footprint MAXM-S8+4_M (SOIC, 8-Leads, Body 4.9x3.9mm, Pitch 1.27mm, IPC Low Density)
pins: 1 GND (power) "Ground", 2 T- (in) "Thermocouple Input. See Table 1. Do not connect to GND.", 3 T+ (in) "Thermocouple Input. See Table 1.", 4 VCC (power) "Power-Supply Voltage", 5 SCK (in) "Serial-Clock Input", 6 ~{CS} (in) "Active-Low Chip Select. Set C\S\ low to enable the serial interface.", 7 SO (out) "Serial-Data Output", 8 DNC "Do Not Connect"

## MAX31855JASA+
designator U?
Cold Junction Compensated Thermocouple to Digital Converter, 14 Bits Temperature Resolution, -40 to 125 degC, 8-Pin SOIC (S8+4), Pb-Free; Generic Part Number: MAX31855; PartNumber: MAX31855JASA+; Functions: Thermocouple-to-Digital Converter; Interface: SPI; Parasite Pwr.: No; DatasheetVersion: Rev. 2; PackageVersion: Rev. D, 10/2012; PackageReference: S8+4; PackageDescription: 8-Pin Small-Outline IC, Narrow, Body 3.9 x 4.9 mm, Pitch 1.27 mm; Supplier 1: Digi-Key; Supplier Part Number 1: MAX31855JASA+-ND; Supplier 2: Mouser; Supplier Part Number 2: 700-MAX31855JASA+; Mounting Technology: Surface Mount; Code_JEDEC: MS-012; ComponentLink1Description: Manufacturer URL; ComponentLink1URL: http://www.maximintegrated.com/; ComponentLink2Description: Datasheet; ComponentLink2URL: http://datasheets.maximintegrated.com/en/ds/MAX31855.pdf; ComponentLink3Description: Package Specification; ComponentLink3URL: http://pdfserv.maximintegrated.com/package_dwgs/21-0041.PDF
footprint MAXM-S8+4_N (SOIC, 8-Leads, Body 4.9x3.9mm, Pitch 1.27mm, IPC Medium Density)
footprint MAXM-S8+4_L (SOIC, 8-Leads, Body 4.9x3.9mm, Pitch 1.27mm, IPC High Density)
footprint MAXM-S8+4_M (SOIC, 8-Leads, Body 4.9x3.9mm, Pitch 1.27mm, IPC Low Density)
pins: 1 GND (power) "Ground", 2 T- (in) "Thermocouple Input. See Table 1. Do not connect to GND.", 3 T+ (in) "Thermocouple Input. See Table 1.", 4 VCC (power) "Power-Supply Voltage", 5 SCK (in) "Serial-Clock Input", 6 ~{CS} (in) "Active-Low Chip Select. Set C\S\ low to enable the serial interface.", 7 SO (out) "Serial-Data Output", 8 DNC "Do Not Connect"

## MAX31855JASA+T
designator U?
Cold Junction Compensated Thermocouple to Digital Converter, 14 Bits Temperature Resolution, -40 to 125 degC, 8-Pin SOIC (S8+4), Pb-Free, Tape ang Reel; Generic Part Number: MAX31855; PartNumber: MAX31855JASA+T; Functions: Thermocouple-to-Digital Converter; Interface: SPI; Parasite Pwr.: No; DatasheetVersion: Rev. 2; PackageVersion: Rev. D, 10/2012; PackageReference: S8+4; PackageDescription: 8-Pin Small-Outline IC, Narrow, Body 3.9 x 4.9 mm, Pitch 1.27 mm; Supplier 1: Digi-Key; Supplier Part Number 1: MAX31855JASA+T-ND; Supplier 2: Mouser; Supplier Part Number 2: 700-MAX31855JASA+T; Packing: Tape ang Reel; Mounting Technology: Surface Mount; Code_JEDEC: MS-012; ComponentLink1Description: Manufacturer URL; ComponentLink1URL: http://www.maximintegrated.com/; ComponentLink2Description: Datasheet; ComponentLink2URL: http://datasheets.maximintegrated.com/en/ds/MAX31855.pdf; ComponentLink3Description: Package Specification; ComponentLink3URL: http://pdfserv.maximintegrated.com/package_dwgs/21-0041.PDF
footprint MAXM-S8+4_N (SOIC, 8-Leads, Body 4.9x3.9mm, Pitch 1.27mm, IPC Medium Density)
footprint MAXM-S8+4_L (SOIC, 8-Leads, Body 4.9x3.9mm, Pitch 1.27mm, IPC High Density)
footprint MAXM-S8+4_M (SOIC, 8-Leads, Body 4.9x3.9mm, Pitch 1.27mm, IPC Low Density)
pins: 1 GND (power) "Ground", 2 T- (in) "Thermocouple Input. See Table 1. Do not connect to GND.", 3 T+ (in) "Thermocouple Input. See Table 1.", 4 VCC (power) "Power-Supply Voltage", 5 SCK (in) "Serial-Clock Input", 6 ~{CS} (in) "Active-Low Chip Select. Set C\S\ low to enable the serial interface.", 7 SO (out) "Serial-Data Output", 8 DNC "Do Not Connect"

## MAX31855KASA+
designator U?
Cold Junction Compensated Thermocouple to Digital Converter, 14 Bits Temperature Resolution, -40 to 125 degC, 8-Pin SOIC (S8+4), Pb-Free; Generic Part Number: MAX31855; PartNumber: MAX31855KASA+; Functions: Thermocouple-to-Digital Converter; Interface: SPI; Parasite Pwr.: No; DatasheetVersion: Rev. 2; PackageVersion: Rev. D, 10/2012; PackageReference: S8+4; PackageDescription: 8-Pin Small-Outline IC, Narrow, Body 3.9 x 4.9 mm, Pitch 1.27 mm; Supplier 1: Digi-Key; Supplier Part Number 1: MAX31855KASA+-ND; Supplier 2: Mouser; Supplier Part Number 2: 700-MAX31855KASA+; Mounting Technology: Surface Mount; Code_JEDEC: MS-012; ComponentLink1Description: Manufacturer URL; ComponentLink1URL: http://www.maximintegrated.com/; ComponentLink2Description: Datasheet; ComponentLink2URL: http://datasheets.maximintegrated.com/en/ds/MAX31855.pdf; ComponentLink3Description: Package Specification; ComponentLink3URL: http://pdfserv.maximintegrated.com/package_dwgs/21-0041.PDF
footprint MAXM-S8+4_N (SOIC, 8-Leads, Body 4.9x3.9mm, Pitch 1.27mm, IPC Medium Density)
footprint MAXM-S8+4_L (SOIC, 8-Leads, Body 4.9x3.9mm, Pitch 1.27mm, IPC High Density)
footprint MAXM-S8+4_M (SOIC, 8-Leads, Body 4.9x3.9mm, Pitch 1.27mm, IPC Low Density)
pins: 1 GND (power) "Ground", 2 T- (in) "Thermocouple Input. See Table 1. Do not connect to GND.", 3 T+ (in) "Thermocouple Input. See Table 1.", 4 VCC (power) "Power-Supply Voltage", 5 SCK (in) "Serial-Clock Input", 6 ~{CS} (in) "Active-Low Chip Select. Set C\S\ low to enable the serial interface.", 7 SO (out) "Serial-Data Output", 8 DNC "Do Not Connect"